# Altium schematic symbol library therele.SchLib: 2 symbols
Pins are listed as number, name and electrical type; pins without a type are passive.

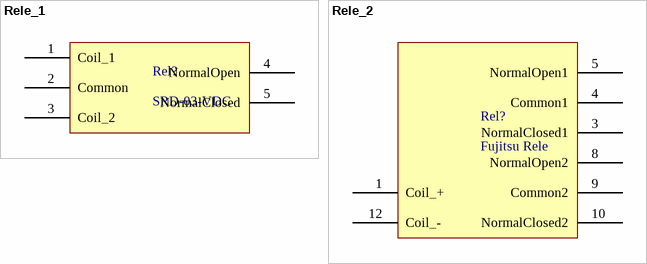
[diagram p0: symbols Rele_1 to Rele_2]

## Rele_1
designator Rel?, comment SRD-03-VDC
Part: HF3FF
footprint ReleSRD (SRD-03-VDC)
pins: 1 Coil_1, 2 Common, 3 Coil_2, 4 NormalOpen, 5 NormalClosed

## Rele_2
designator Rel?, comment Fujitsu Rele
footprint Rele_Fujtsu
pins: 1 Coil_+, 3 NormalClosed1, 4 Common1, 5 NormalOpen1, 8 NormalOpen2, 9 Common2, 10 NormalClosed2, 12 Coil_-